# Altium footprint library Logo.PcbLib: 8 footprints
Each footprint in its own frame and in the unit in brackets; x right, y up, seen from the top. Pads: shape width x height; smd on the part's side, far side on the other; paste and mask are expansions set on the pad; w line width, h text height; cw(c..) or ccw(c..) is an arc to the next point about the centre after c.
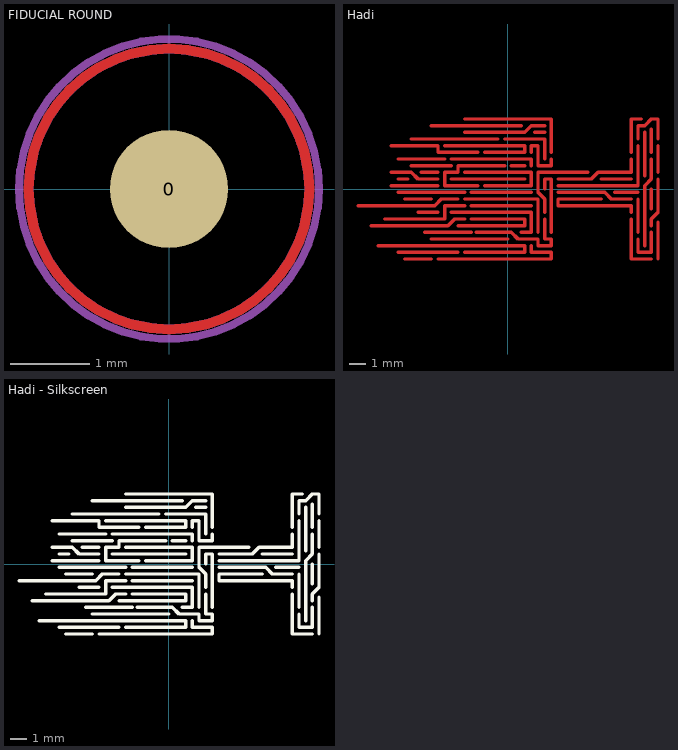
[diagram p0: the footprints below, top view; thin cyan lines are the x and y axes]

## Don't Recycle [mm]

## FIDUCIAL ROUND [mm] "FIDUCIAL ROUND"
pads (1):
  round 1.5 all layers, no hole paste-1.524 mask+1.1: 0(0,0)
Top Layer:
  lines w0.127: 0,-1.778 ccw(c0,0) 0,1.778 ccw(c0,0) 0,-1.778
Bottom Layer:
  lines w0.127: 0,-1.778 ccw(c0,0) 0,1.778 ccw(c0,0) 0,-1.778
Mechanical 1:
  circle w0.1: c0,0 r1.9

## Hadi [mm] "My Personal Logo"
Top Layer:
  lines w0.2: -9,-1 -4.4,-1 -4,-0.6 -3,-0.6 ; -7.8,-3.4 1,-3.4 1,-3.8 -2.6,-3.8 ; -7.4,-1.8 -3.8,-1.8 -3.8,-1 -2.6,-1 ; -7,0.2 -4.2,0.2 ; -7,1 -5.8,1 -5.4,0.6 -4.2,0.6 ; -7,2.6 -4.2,2.6 -4.2,2.2 -1.8,2.2 ; -6.6,-3.8 -3,-3.8 ; -6.6,-0.2 -2.6,-0.2 ; -6.6,0.6 -6,0.6 ; -6.6,1.8 -3.8,1.8 ; -6.2,-4.2 -4.6,-4.2 ; -6.2,-0.6 -4.6,-0.6 ; -5.8,1.4 -3.4,1.4 ; -5.8,3 -0.6,3 ; -5.4,-1.4 -4.2,-1.4 ; -5.2,1 -4.2,1 ; -5,-2.6 -2.2,-2.6 ; -4.6,-3 0,-3 ; -4.6,3.8 0.8,3.8 ; -4.2,-4.2 2.6,-4.2 2.6,-3.8 1.4,-3.8 1.4,-3.4 ; -3.8,2.6 1,2.6 1,2.2 -1.4,2.2 ; -3.4,-1.4 1.4,-1.4 1.4,-2.6 0.8,-2.6 ; -3.4,0.6 1,0.6 ; -3.4,1.8 1.4,1.8 1.4,1.4 ; -3,-2.2 1,-2.2 1,-1.8 -2.2,-1.8 ; -2.6,-1.8 -3.2,-1.8 -3.6,-2.2 -8.2,-2.2 ; -2.6,-0.6 1.8,-0.6 1.8,-2.6 ; -2.6,1 1.4,1 1.4,0.2 -1.4,0.2 ; -2.6,3.4 1,3.4 1.4,3.8 2.2,3.8 ; -2.6,4.2 2.6,4.2 2.6,2.2 ; -2.2,-1 1.4,-1 ; -2.2,-0.2 1.4,-0.2 ; -1.9,-2.6 0.2,-2.6 0.6,-3 1.8,-3 1.8,-3.4 2.6,-3.4 2.6,-3 2.2,-3 2.2,-1.8 ; -1.8,0.2 -3.8,0.2 -3.8,1 -3,1 -3,1.4 -0.2,1.4 ; -0.2,3 2.2,3 2.2,1.8 ; 0.2,1.4 1,1.4 ; 1.4,2.2 1.4,2.6 1.8,2.6 1.8,1.4 2.6,1.4 2.6,1.8 ; 1.6,3.4 2.2,3.4 ; 2.2,-1.4 2.2,-0.6 ; 2.2,0 2.2,0.6 2.6,0.6 2.6,-2.6 ; 3,-0.2 5.8,-0.2 6.2,-0.6 7.4,-0.6 ; 3,0.2 7.8,0.2 7.8,2.6 ; 3,0.6 5,0.6 5.4,1 7.4,1 7.4,1.8 ; 4.8,1 1.8,1 1.8,-0.2 2.2,-0.6 ; 5.6,-0.6 3,-0.6 3,-1 7.4,-1 7.4,-1.4 ; 5.6,0.6 7.4,0.6 ; 6.4,-0.2 7.8,-0.2 ; 7.4,-1.8 7.4,-4.2 8.6,-4.2 ; 7.4,2.2 7.4,4.2 8,4.2 ; 7.8,-3 7.8,-3.8 8.6,-3.8 8.6,-2.6 ; 7.8,-2.6 7.8,-0.6 ; 7.8,3 7.8,3.8 8.2,3.8 8.6,4.2 9,4.2 9,3 ; 8.2,-3.4 8.2,0.2 8.6,0.6 8.6,1.8 ; 8.2,0.8 8.2,3.4 ; 8.6,-2.2 8.6,-1.8 9,-1.4 9,0.6 ; 8.6,-1.2 8.6,0 ; 8.6,2.2 8.6,3.6 ; 9,-4.2 9,-2 ; 9,1 9,2.6 ; -8.2,-2.2 -8.2,-2.2 ; 2.2,-0.6 2.2,-0.6

## Hadi - Silkscreen [mm] "My Personal Logo"
Top Overlay:
  lines w0.2: -9,-1 -4.4,-1 -4,-0.6 -3,-0.6 ; -7.8,-3.4 1,-3.4 1,-3.8 -2.6,-3.8 ; -7.4,-1.8 -3.8,-1.8 -3.8,-1 -2.6,-1 ; -7,0.2 -4.2,0.2 ; -7,1 -5.8,1 -5.4,0.6 -4.2,0.6 ; -7,2.6 -4.2,2.6 -4.2,2.2 -1.8,2.2 ; -6.6,-3.8 -3,-3.8 ; -6.6,-0.2 -2.6,-0.2 ; -6.6,0.6 -6,0.6 ; -6.6,1.8 -3.8,1.8 ; -6.2,-4.2 -4.6,-4.2 ; -6.2,-0.6 -4.6,-0.6 ; -5.8,1.4 -3.4,1.4 ; -5.8,3 -0.6,3 ; -5.4,-1.4 -4.2,-1.4 ; -5.2,1 -4.2,1 ; -5,-2.6 -2.2,-2.6 ; -4.6,-3 0,-3 ; -4.6,3.8 0.8,3.8 ; -4.2,-4.2 2.6,-4.2 2.6,-3.8 1.4,-3.8 1.4,-3.4 ; -3.8,2.6 1,2.6 1,2.2 -1.4,2.2 ; -3.4,-1.4 1.4,-1.4 1.4,-2.6 0.8,-2.6 ; -3.4,0.6 1,0.6 ; -3.4,1.8 1.4,1.8 1.4,1.4 ; -3,-2.2 1,-2.2 1,-1.8 -2.2,-1.8 ; -2.6,-1.8 -3.2,-1.8 -3.6,-2.2 -8.2,-2.2 ; -2.6,-0.6 1.8,-0.6 1.8,-2.6 ; -2.6,1 1.4,1 1.4,0.2 -1.4,0.2 ; -2.6,3.4 1,3.4 1.4,3.8 2.2,3.8 ; -2.6,4.2 2.6,4.2 2.6,2.2 ; -2.2,-1 1.4,-1 ; -2.2,-0.2 1.4,-0.2 ; -1.9,-2.6 0.2,-2.6 0.6,-3 1.8,-3 1.8,-3.4 2.6,-3.4 2.6,-3 2.2,-3 2.2,-1.8 ; -1.8,0.2 -3.8,0.2 -3.8,1 -3,1 -3,1.4 -0.2,1.4 ; -0.2,3 2.2,3 2.2,1.8 ; 0.2,1.4 1,1.4 ; 1.4,2.2 1.4,2.6 1.8,2.6 1.8,1.4 2.6,1.4 2.6,1.8 ; 1.6,3.4 2.2,3.4 ; 2.2,-1.4 2.2,-0.6 ; 2.2,0 2.2,0.6 2.6,0.6 2.6,-2.6 ; 3,-0.2 5.8,-0.2 6.2,-0.6 7.4,-0.6 ; 3,0.2 7.8,0.2 7.8,2.6 ; 3,0.6 5,0.6 5.4,1 7.4,1 7.4,1.8 ; 4.8,1 1.8,1 1.8,-0.2 2.2,-0.6 ; 5.6,-0.6 3,-0.6 3,-1 7.4,-1 7.4,-1.4 ; 5.6,0.6 7.4,0.6 ; 6.4,-0.2 7.8,-0.2 ; 7.4,-1.8 7.4,-4.2 8.6,-4.2 ; 7.4,2.2 7.4,4.2 8,4.2 ; 7.8,-3 7.8,-3.8 8.6,-3.8 8.6,-2.6 ; 7.8,-2.6 7.8,-0.6 ; 7.8,3 7.8,3.8 8.2,3.8 8.6,4.2 9,4.2 9,3 ; 8.2,-3.4 8.2,0.2 8.6,0.6 8.6,1.8 ; 8.2,0.8 8.2,3.4 ; 8.6,-2.2 8.6,-1.8 9,-1.4 9,0.6 ; 8.6,-1.2 8.6,0 ; 8.6,2.2 8.6,3.6 ; 9,-4.2 9,-2 ; 9,1 9,2.6 ; -8.2,-2.2 -8.2,-2.2 ; 2.2,-0.6 2.2,-0.6

## Lead Free [mm]

## Open Hardware [mm]

## ROHS [mm]

## Wire Loop [mm]